# Altium integrated library Lib.IntLib: 1 symbol
Pins are listed as number, name and electrical type; pins without a type are passive.

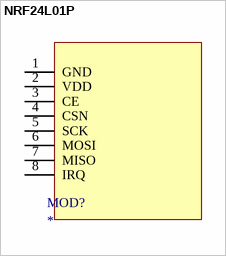
[diagram p0: symbol NRF24L01P]

## NRF24L01P
designator MOD?
footprint HDR2X4 (Footprint not found)
pins: 1 GND (power), 2 VDD (power), 3 CE, 4 CSN, 5 SCK, 6 MOSI, 7 MISO, 8 IRQ